# EAGLE library part 74*163 (library df4iah_74xxx)
74163 - 4 bit binary up counter all synchronous count, clear and load.
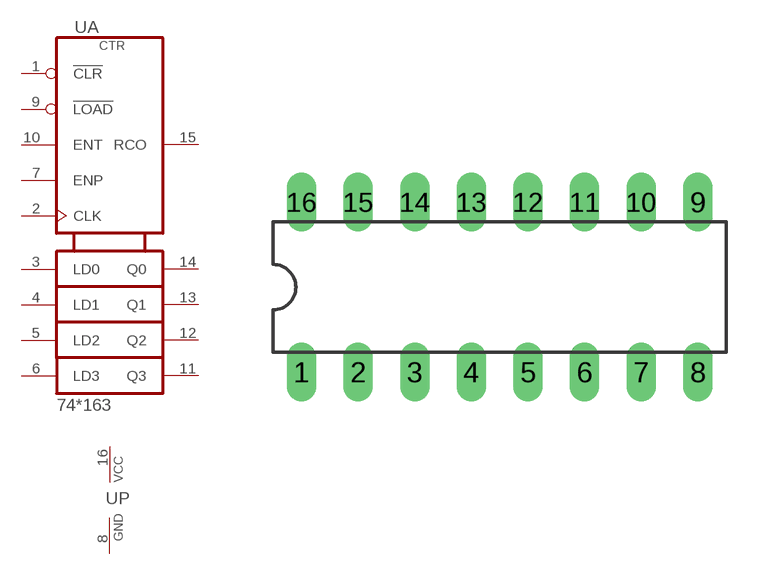
[diagram p16: symbol with the pads of DIL16; footprint DIL16]

Designator prefix U; gates P=PWRN A=74163

## 74163  [DIL16]
1  A:!CLR  in
2  A:CLK  in
3  A:LD0  in
4  A:LD1  in
5  A:LD2  in
6  A:LD3  in
7  A:ENP  in
8  P:GND  pwr
9  A:!LOAD  in
10  A:ENT  in
11  A:Q3  out
12  A:Q2  out
13  A:Q1  out
14  A:Q0  out
15  A:RCO  out
16  P:VCC  pwr

## Footprint DIL16 (pad centres in mm)
Dual In Line Package
drill 0.813 long: 1 -8.89,-3.81; 2 -6.35,-3.81; 3 -3.81,-3.81; 4 -1.27,-3.81; 5 1.27,-3.81; 6 3.81,-3.81; 7 6.35,-3.81; 8 8.89,-3.81; 9 8.89,3.81; 10 6.35,3.81; 11 3.81,3.81; 12 1.27,3.81; 13 -1.27,3.81; 14 -3.81,3.81; 15 -6.35,3.81; 16 -8.89,3.81